# Altium schematic symbol library SMA_conn.SchLib: 1 symbol
Pins are listed as number, name and electrical type; pins without a type are passive.

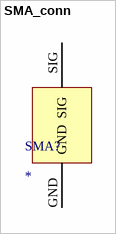
[diagram p0: symbol SMA_conn]

## SMA_conn
designator SMA?
footprint SMA_conn
pins: GND, SIG